# EAGLE library part NOII_SENSOR_MODULE_INTERCONNECT (library CONNECTORs)
Interconnect for the 014_sensorboard_REVA_sch-pcb.
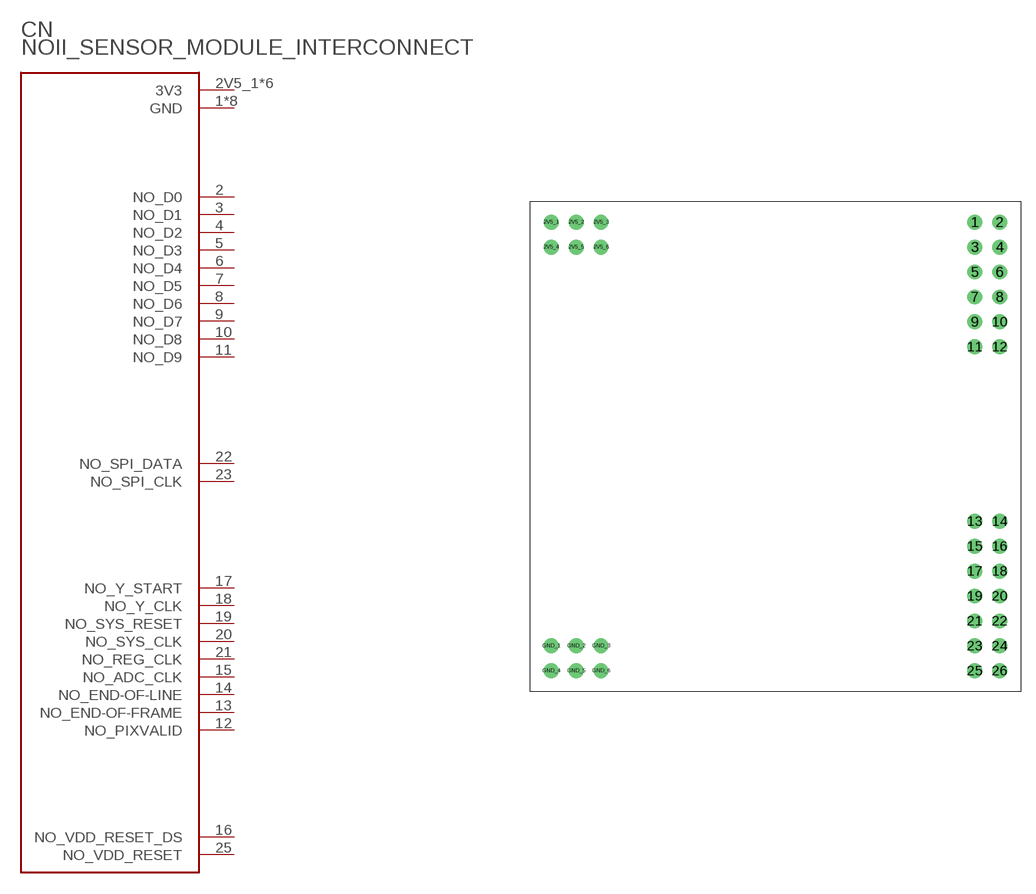
[diagram p18: symbol with the pads of NOII_SENSOR_MODULE; footprint NOII_SENSOR_MODULE]

Designator prefix CN

## NOII_SENSOR_MODULE_INTERCONNECT  [NOII_SENSOR_MODULE]
1  GND
2  NO_D0
2V5_1  3V3
2V5_2  3V3
2V5_3  3V3
2V5_4  3V3
2V5_5  3V3
2V5_6  3V3
3  NO_D1
4  NO_D2
5  NO_D3
6  NO_D4
7  NO_D5
8  NO_D6
9  NO_D7
10  NO_D8
11  NO_D9
12  NO_PIXVALID
13  NO_END-OF-FRAME
14  NO_END-OF-LINE
15  NO_ADC_CLK
16  NO_VDD_RESET_DS
17  NO_Y_START
18  NO_Y_CLK
19  NO_SYS_RESET
20  NO_SYS_CLK
21  NO_REG_CLK
22  NO_SPI_DATA
23  NO_SPI_CLK
24  GND
25  NO_VDD_RESET
GND_1  GND
GND_2  GND
GND_3  GND
GND_4  GND
GND_5  GND
GND_6  GND

## Footprint NOII_SENSOR_MODULE (pad centres in mm)
drill 1 pad 1.5: 1 20.32,22.86; 2 22.86,22.86; 2V5_1 -22.86,22.86; 2V5_2 -20.32,22.86; 2V5_3 -17.78,22.86; 2V5_4 -22.86,20.32; 2V5_5 -20.32,20.32; 2V5_6 -17.78,20.32; 3 20.32,20.32; 4 22.86,20.32; 5 20.32,17.78; 6 22.86,17.78; 7 20.32,15.24; 8 22.86,15.24; 9 20.32,12.7; 10 22.86,12.7; 11 20.32,10.16; 12 22.86,10.16; 13 20.32,-7.62; 14 22.86,-7.62; 15 20.32,-10.16; 16 22.86,-10.16; 17 20.32,-12.7; 18 22.86,-12.7; 19 20.32,-15.24; 20 22.86,-15.24; 21 20.32,-17.78; 22 22.86,-17.78; 23 20.32,-20.32; 24 22.86,-20.32; 25 20.32,-22.86; 26 22.86,-22.86; GND_1 -22.86,-20.32; GND_2 -20.32,-20.32; GND_3 -17.78,-20.32; GND_4 -22.86,-22.86; GND_5 -20.32,-22.86; GND_6 -17.78,-22.86